# Altium schematic symbol library FLY DIVER.SchLib: 6 symbols
Pins are listed as number, name and electrical type; pins without a type are passive.

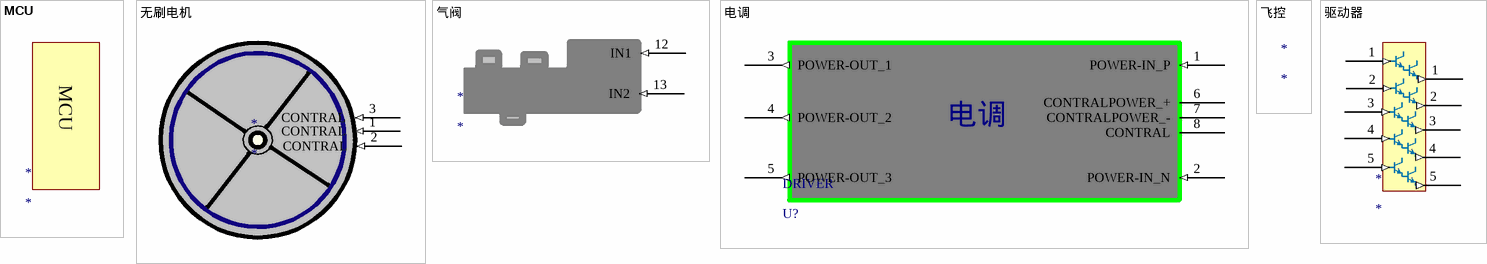
[diagram p0: symbols MCU to 驱动器]

## MCU
designator *

## 无刷电机
designator *
footprint PCBComponent_1
pins: 1 CONTRAL (in), 2 CONTRAL (in), 3 CONTRAL (in)

## 气阀
designator *
pins: 12 IN1 (in), 13 IN2 (in)

## 电调
designator DRIVER, comment U?
footprint 电调; pin to pad 3>6 4>7 5>8 6>3 7>4 8>5
pins: 1 POWER-IN_P (in), 2 POWER-IN_N (in), 3 POWER-OUT_1 (out), 4 POWER-OUT_2 (out), 5 POWER-OUT_3 (out), 6 CONTRALPOWER_+, 7 CONTRALPOWER_-, 8 CONTRAL

## 飞控
designator *
footprint 飞控

## 驱动器
designator *
pins: 1 IN (in), 1 OUT (out), 2 IN (in), 2 OUT (out), 3 IN (in), 3 OUT (out), 4 IN (in), 4 OUT (out), 5 IN (in), 5 OUT (out)